# EAGLE library part PICO (library PICO)
RP2040 microcontroller chip designed by Raspberry Pi in the United Kingdom 2 SPI, 2 I2C, 2 UART, 3 12-bit ADC, 16 controllable PWM channels Source: Datasheet <https://datasheets.raspberrypi.org/pico/pico_datasheet.pdf>
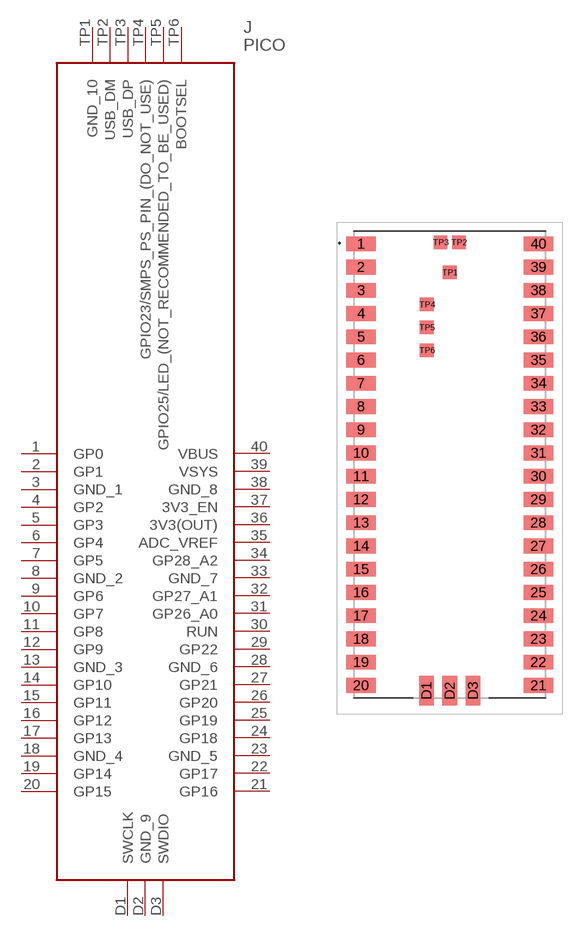
[diagram p0: symbol with the pads of PICO; footprint PICO]

Designator prefix J

## PICO (Description: RP2040 microcontroller chip designed by Raspberry Pi in the United Kingdom 2 SPI, 2 I2C, 2 UART, 3 12-bit ADC, 16 controllable PWM channels; Height: 1mm; Manufacturer_Name: RASPBERRY-PI; Manufacturer_Part_Number: PICO)  [PICO]
1  GP0
2  GP1
3  GND_1
4  GP2
5  GP3
6  GP4
7  GP5
8  GND_2
9  GP6
10  GP7
11  GP8
12  GP9
13  GND_3
14  GP10
15  GP11
16  GP12
17  GP13
18  GND_4
19  GP14
20  GP15
21  GP16
22  GP17
23  GND_5
24  GP18
25  GP19
26  GP20
27  GP21
28  GND_6
29  GP22
30  RUN
31  GP26_A0
32  GP27_A1
33  GND_7
34  GP28_A2
35  ADC_VREF
36  3V3(OUT)
37  3V3_EN
38  GND_8
39  VSYS
40  VBUS
D1  SWCLK
D2  GND_9
D3  SWDIO
TP1  GND_10
TP2  USB_DM
TP3  USB_DP
TP4  GPIO23/SMPS_PS_PIN_(DO_NOT_USE)
TP5  GPIO25/LED_(NOT_RECOMMENDED_TO_BE_USED)
TP6  BOOTSEL

## Footprint PICO (pad centres in mm)
PICO-2
smd 3.2 x 1.6: 1 0.81,49.63; 2 0.81,47.09; 3 0.81,44.55; 4 0.81,42.01; 5 0.81,39.47; 6 0.81,36.93; 7 0.81,34.39; 8 0.81,31.85; 9 0.81,29.31; 10 0.81,26.77; 11 0.81,24.23; 12 0.81,21.69; 13 0.81,19.15; 14 0.81,16.61; 15 0.81,14.07; 16 0.81,11.53; 17 0.81,8.99; 18 0.81,6.45; 19 0.81,3.91; 20 0.81,1.37; 21 20.19,1.37; 22 20.19,3.91; 23 20.19,6.45; 24 20.19,8.99; 25 20.19,11.53; 26 20.19,14.07; 27 20.19,16.61; 28 20.19,19.15; 29 20.19,21.69; 30 20.19,24.23; 31 20.19,26.77; 32 20.19,29.31; 33 20.19,31.85; 34 20.19,34.39; 35 20.19,36.93; 36 20.19,39.47; 37 20.19,42.01; 38 20.19,44.55; 39 20.19,47.09; 40 20.19,49.63
smd 1.6 x 3.2: D1 7.96,0.8; D2 10.5,0.8; D3 13.04,0.8
smd 1.5 x 1.5: TP1 10.5,46.5; TP2 11.5,49.8; TP3 9.5,49.8; TP4 8,43; TP5 8,40.5; TP6 8,38